# Altium footprint library Connectors.PcbLib: 4 footprints
Each footprint in its own frame and in the unit in brackets; x right, y up, seen from the top. Pads: shape width x height; smd on the part's side, far side on the other; paste and mask are expansions set on the pad; w line width, h text height; cw(c..) or ccw(c..) is an arc to the next point about the centre after c.
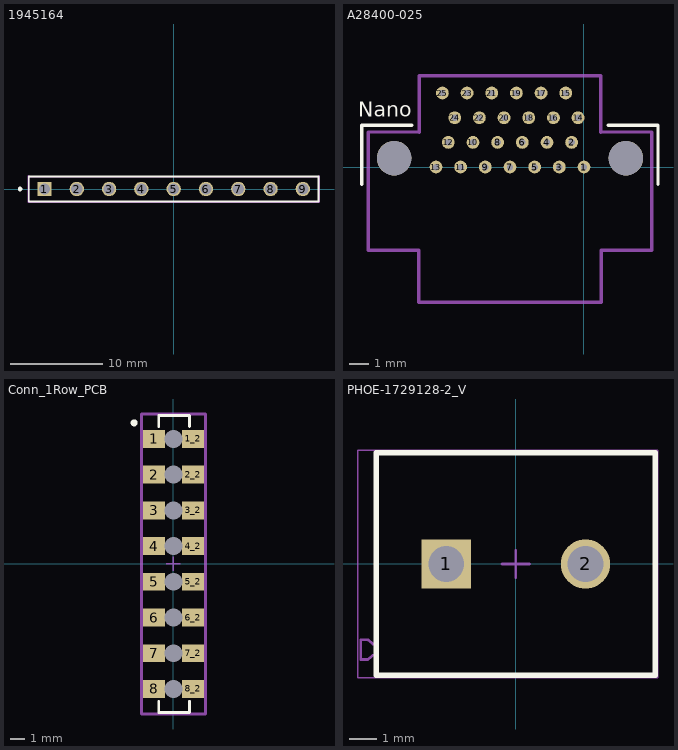
[diagram p0: the footprints below, top view; thin cyan lines are the x and y axes]

## 1945164 [mm] "TERM BLOCK HDR 9POS VERT 3.5MM"
pads (9):
  rect 1.566x1.566 hole 1.2 mask+0: 1(-14,0)
  round 1.566 hole 1.2 mask+0: 2(-10.5,0) 3(-7,0) 4(-3.5,0) 5(0,0) 6(3.5,0) 7(7,0) 8(10.5,0) 9(14,0)
Top Overlay:
  circle w0.25: c-16.637,0 r0.125
  lines w0.2: -15.7,-1.35 15.7,-1.35 15.7,1.35 -15.7,1.35 -15.7,-1.35
Top 3D Body:
  lines w0.2: -15.75,-1.4 15.75,-1.4 15.75,1.4 ; -15.75,-1.232 -15.75,1.232
Top Courtyard:
  lines w0.2: -15.75,1.332 15.75,1.332 ; -15.75,1.4 -15.75,-1.4 15.75,-1.4 15.75,1.4
Top Assembly:
  lines w0.2: -15.75,1.4 -15.75,-1.4 15.75,-1.4 15.75,1.4 ; -12.711,1.332 12.711,1.332
Top Component Center:
  lines w0.1: 0,-0.5 0,0.5

## A28400-025 [mil] "Nano D Connector Dual Row - 4 row hole pattern"
pads (27):
  round 26 hole 13: 1(0,0) 2(-25,50) 3(-50,0) 4(-75,50) 5(-100,0) 6(-125,50) 7(-150,0) 8(-175,50) 9(-200,0) 10(-225,50) 11(-250,0) 12(-275,50) 13(-300,0) 14(-12,100) 15(-37,150) 16(-62,100) 17(-87,150) 18(-112,100) 19(-137,150) 20(-162,100) 21(-187,150) 22(-212,100) 23(-237,150) 24(-262,100) 25(-287,150)
  round 70 hole 70: ""(-385,18) ""(85,18)
Top Overlay:
  lines w7: -450,-35 -450,85 -348.75,85 ; 48.75,85 150,85 150,-35
  text "Nano" at -458,102 h30
Mechanical 1:
  lines w7: -335,71 -437.5,71 -437.5,-169 -335,-169 -335,-274 35,-274 35,-169 137.5,-169 137.5,71 35,71 ; -334,70 -334,185 34,185 34,70
3D body: height 140, standoff 0, extent -437.5,-274 137.5,185

## Conn_1Row_PCB [mm]
height 21.463
pads (24):
  rect 1.57x1.27 smd paste+0 mask+0: 1(-1.381,8.89) 1_2(1.397,8.89) 2(-1.381,6.35) 2_2(1.397,6.35) 3(-1.381,3.81) 3_2(1.397,3.81) 4(-1.381,1.27) 4_2(1.397,1.27) 5(-1.381,-1.27) 5_2(1.397,-1.27) 6(-1.381,-3.81) 6_2(1.397,-3.81) 7(-1.381,-6.35) 7_2(1.397,-6.35) 8(-1.381,-8.89) 8_2(1.397,-8.89)
  round 1.02 hole 1.27 unplated paste-1000 mask+0: ""(0,-8.89) ""(0,-6.35) ""(0,-3.81) ""(0,-1.27) ""(0,1.27) ""(0,3.81) ""(0,6.35) ""(0,8.89)
Top Overlay:
  circle w0.25: c-2.794,10.033 r0.125
  lines w0.2: -1.051,-9.765 -1.051,-10.56 1.143,-10.56 1.143,-9.765 ; -1.051,9.765 -1.051,10.56 1.143,10.56 1.143,9.765
Top Courtyard:
  lines w0.2: -2.261,-10.668 -2.261,10.66 2.286,10.66 2.286,-10.668 -2.261,-10.668
Top Assembly:
  lines w0.2: -2.261,-10.668 -2.261,10.66 2.286,10.66 2.286,-10.668 -2.261,-10.668
  text ".Designator" at 1.524,-2.54 h1
Top Component Center:
  lines w0.1: -0.508,0 0.492,0 ; 0,-0.5 0,0.5

## PHOE-1729128-2_V [mm] "Receptacle, 2-Leads, Body 8.1x10.16mm, Pitch 5.08mm"
height 10.013
pads (2):
  rect 1.8x1.8 hole 1.3: 1(-2.54,0)
  round 1.8 hole 1.3: 2(2.54,0)
Top Overlay:
  lines w0.2: -5.08,-4.05 5.08,-4.05 5.08,4.05 -5.08,4.05 -5.08,-4.05
Mechanical 13:
  lines w0.1: -5.08,-3.327 -5.209,-3.327 -5.387,-3.477 -5.65,-3.477 -5.65,-2.763 ; -5.08,-2.913 -5.209,-2.913 -5.387,-2.763 -5.65,-2.763 ; -5.65,-2.763 -5.65,-2.763 ; -5.08,-4.05 5.08,-4.05 5.08,4.05 -5.08,4.05 -5.08,-4.05
Mechanical 15:
  lines w0.05: -5.75,-4.15 5.18,-4.15 5.18,4.15 -5.75,4.15 -5.75,-4.15
  lines w0.1: -0.5,0 0.5,0 ; 0,-0.5 0,0.5
3D body "1729128.stp": height 10.01, standoff -3.49, extent -5.65,-4.05 5.08,4.05